# EAGLE library part XRP7659ISTR-F (library misc)
Buck Schaltregler-IC Positiv Einstellbar 0,81 V 1 Ausgang 1,5 A SOT-23-6
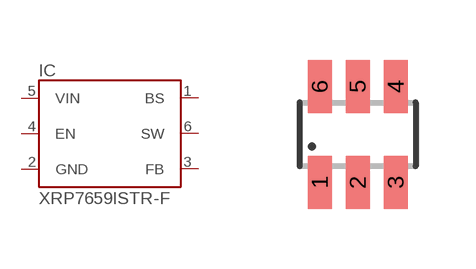
[diagram p7: symbol with the pads of SOT23-6_EXAR; footprint SOT23-6_EXAR]

Designator prefix IC

## XRP7659ISTR-F (OC_DIGIKEY: XRP7659ISTR-F; OC_FARNELL: 2317642)  [SOT23-6_EXAR]
1  BS
2  GND
3  FB
4  EN
5  VIN
6  SW

## Footprint SOT23-6_EXAR (pad centres in mm)
Small Outline Transistor 6 lead
smd 0.6 x 1.33: 1 -0.95,-1.2; 2 0,-1.2; 3 0.95,-1.2; 4 0.95,1.2; 5 0,1.2; 6 -0.95,1.2